# Altium schematic symbol library SGTL5000XNLA3.SchLib: 1 symbol
Pins are listed as number, name and electrical type; pins without a type are passive.

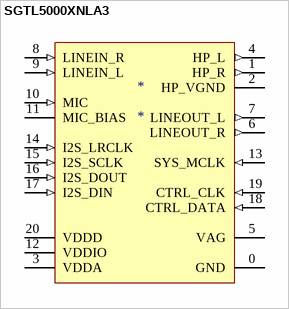
[diagram p0: symbol SGTL5000XNLA3]

## SGTL5000XNLA3
designator *
footprint SGTL5000XNLA3 (NXP SGTL5000XNLA3 I2C Codec / QFN, 20-Leads, Body 3.00x3.00mm, Pitch 0.40mm, Thermal Pad 1.70x1.70mm, IPC Medium Density)
pins: 0 GND (power), 1 HP_R (out), 2 HP_VGND (power), 3 VDDA (power), 4 HP_L (out), 5 VAG (power), 6 LINEOUT_R (out), 7 LINEOUT_L (out), 8 LINEIN_R (in), 9 LINEIN_L (in), 10 MIC (in), 11 MIC_BIAS (power), 12 VDDIO (power), 13 SYS_MCLK (in), 14 I2S_LRCLK (in), 15 I2S_SCLK (in), 16 I2S_DOUT (in), 17 I2S_DIN (in), 18 CTRL_DATA (in), 19 CTRL_CLK (in), 20 VDDD (power)